# EAGLE library part JP8QE (library solder-jumper)
JUMPER
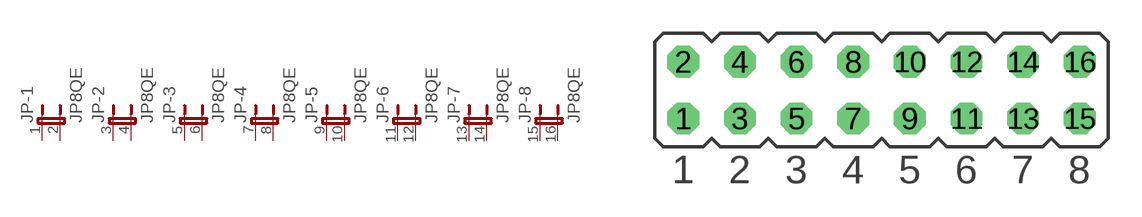
[diagram p5: symbol with the pads of JP8Q; footprint JP8Q]

Designator prefix JP; gates -1=JP2E -2=JP2E -3=JP2E -4=JP2E -5=JP2E -6=JP2E -7=JP2E -8=JP2E

## JP8QE  [JP8Q]
1  -1:1  pas
2  -1:2  pas
3  -2:1  pas
4  -2:2  pas
5  -3:1  pas
6  -3:2  pas
7  -4:1  pas
8  -4:2  pas
9  -5:1  pas
10  -5:2  pas
11  -6:1  pas
12  -6:2  pas
13  -7:1  pas
14  -7:2  pas
15  -8:1  pas
16  -8:2  pas

## Footprint JP8Q (pad centres in mm)
JUMPER
drill 0.914 octagon: 1 -8.89,-1.27; 2 -8.89,1.27; 3 -6.35,-1.27; 4 -6.35,1.27; 5 -3.81,-1.27; 6 -3.81,1.27; 7 -1.27,-1.27; 8 -1.27,1.27; 9 1.27,-1.27; 10 1.27,1.27; 11 3.81,-1.27; 12 3.81,1.27; 13 6.35,-1.27; 14 6.35,1.27; 15 8.89,-1.27; 16 8.89,1.27